# EAGLE library part MCP1700T-3302E_MAY (library MCP1700T-3302E_MAY)
LDO Regulator Pos 3.3V 0.25A Automotive 6-Pin DFN EP T/R Source: Datasheet <http://ww1.microchip.com/downloads/en/DeviceDoc/20001826D.pdf>
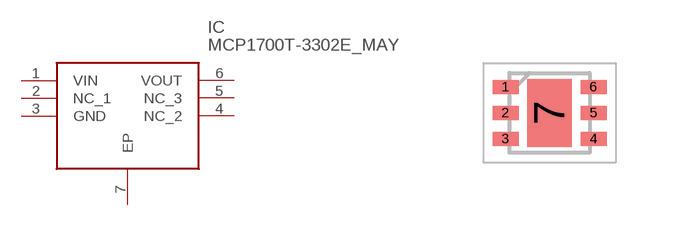
[diagram p0: symbol with the pads of SON65P200X200X90-7N; footprint SON65P200X200X90-7N]

Designator prefix IC

## MCP1700T-3302E_MAY (Arrow_Part_Number: MCP1700T-3302E/MAY; Arrow_Price-Stock: https://www.arrow.com/en/products/mcp1700t-3302emay/microchip-technology; Description: LDO Regulator Pos 3.3V 0.25A Automotive 6-Pin DFN EP T/R; Height: 0.9mm; Manufacturer_Name: Microchip; Manufacturer_Part_Number: MCP1700T-3302E/MAY; Mouser_Part_Number: 579-MCP1700T3302EMAY; Mouser_Price-Stock: https://www.mouser.co.uk/ProductDetail/Microchip-Technology/MCP1700T-3302E-MAY?qs=98WN%2FnWUQiT%252B8kkJEG8McA%3D%3D)  [SON65P200X200X90-7N]
1  VIN
2  NC_1
3  GND
4  NC_2
5  NC_3
6  VOUT
7  EP

## Footprint SON65P200X200X90-7N (pad centres in mm)
6-Lead Dual Flat, No Lead Package (MA[y]-2x2x0.9 Body [DFN]
smd 0.65 x 0.35: 1 -1.1,0.65; 2 -1.1,0; 3 -1.1,-0.65; 4 1.1,-0.65; 5 1.1,0; 6 1.1,0.65
smd 1.1 x 1.7: 7 0,0